# Altium schematic symbol library MCU_TI_CC27xx.SchLib: 1 symbol
Pins are listed as number, name and electrical type; pins without a type are passive.

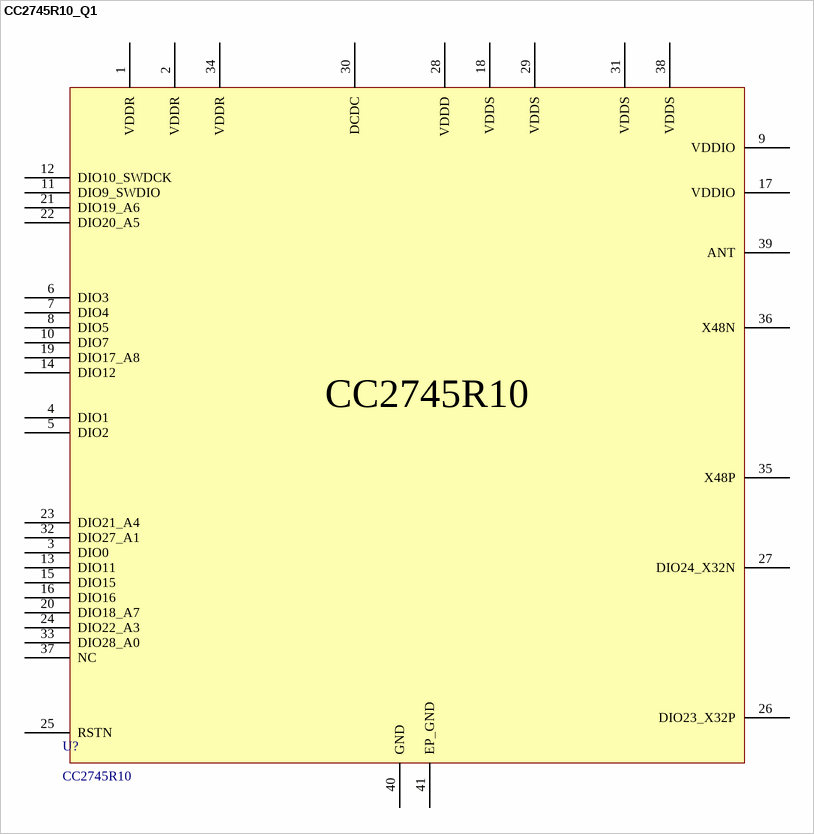
[diagram p0: symbol CC2745R10_Q1]

## CC2745R10_Q1
designator U?, comment CC2745R10
pins: 1 VDDR, 2 VDDR, 3 DIO0, 4 DIO1, 5 DIO2, 6 DIO3, 7 DIO4, 8 DIO5, 9 VDDIO, 10 DIO7, 11 DIO9_SWDIO, 12 DIO10_SWDCK, 13 DIO11, 14 DIO12, 15 DIO15, 16 DIO16, 17 VDDIO, 18 VDDS, 19 DIO17_A8, 20 DIO18_A7, 21 DIO19_A6, 22 DIO20_A5, 23 DIO21_A4, 24 DIO22_A3, 25 RSTN, 26 DIO23_X32P, 27 DIO24_X32N, 28 VDDD, 29 VDDS, 30 DCDC, 31 VDDS, 32 DIO27_A1, 33 DIO28_A0, 34 VDDR, 35 X48P, 36 X48N, 37 NC, 38 VDDS, 39 ANT, 40 GND, 41 EP_GND